# EAGLE library part RFM50 (library X893)
Description: Package for HopeRF RFM50 SMD module
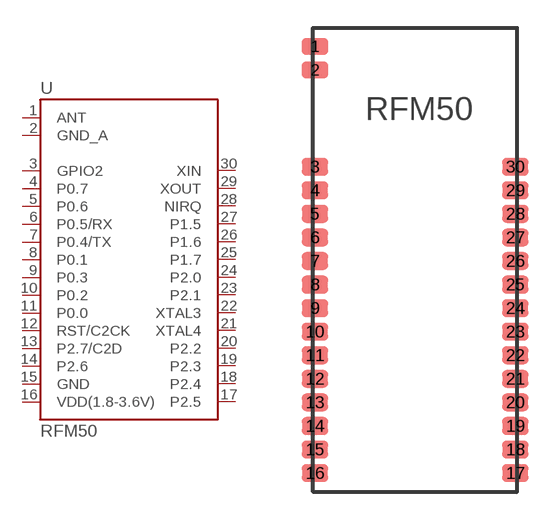
[diagram p203: symbol with the pads of RFM50; footprint RFM50]

Designator prefix U

## RFM50_  [RFM50]
1  ANT
2  GND_A  pwr
3  GPIO2
4  P0.7
5  P0.6
6  P0.5/RX
7  P0.4/TX
8  P0.1
9  P0.3
10  P0.2
11  P0.0
12  RST/C2CK
13  P2.7/C2D
14  P2.6
15  GND  pwr
16  VDD(1.8-3.6V)  pwr
17  P2.5
18  P2.4
19  P2.3
20  P2.2
21  XTAL4
22  XTAL3
23  P2.1
24  P2.0
25  P1.7
26  P1.6
27  P1.5
28  NIRQ  out
29  XOUT
30  XIN

## Footprint RFM50 (pad centres in mm)
Package for HopeRF RFM50 SMD module
smd 1.4 x 0.9: 1 -5.4,11.5; 2 -5.4,10.23
smd 1.4 x 0.95: 3 -5.4,5.01; 4 -5.4,3.74; 5 -5.4,2.47; 6 -5.4,1.2; 7 -5.4,-0.07; 8 -5.4,-1.34; 9 -5.4,-2.61; 10 -5.4,-3.88; 11 -5.4,-5.15; 12 -5.4,-6.42; 13 -5.4,-7.69; 14 -5.4,-8.96; 15 -5.4,-10.23; 16 -5.4,-11.5; 17 5.4,-11.5; 18 5.4,-10.23; 19 5.4,-8.96; 20 5.4,-7.69; 21 5.4,-6.42; 22 5.4,-5.15; 23 5.4,-3.88; 24 5.4,-2.61; 25 5.4,-1.34; 26 5.4,-0.07; 27 5.4,1.2; 28 5.4,2.47; 29 5.4,3.74; 30 5.4,5.01